# EAGLE library part CN3302 (library MICRO)
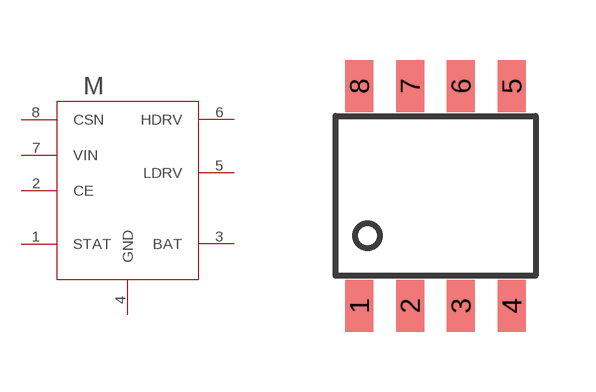
[diagram p0: symbol with the pads of CN3302; footprint CN3302]

Designator prefix M

## CN3302  [CN3302]
1  STAT  in
2  CE  in
3  BAT  in
4  GND  pwr
5  LDRV  out
6  HDRV  out
7  VIN  out
8  CSN  out

## Footprint CN3302 (pad centres in mm)
smd 0.7 x 1.3: 1 -1.905,-2.75; 2 -0.635,-2.75; 3 0.635,-2.75; 4 1.905,-2.75; 5 1.905,2.75; 6 0.635,2.75; 7 -0.635,2.75; 8 -1.905,2.75